# Altium footprint library NodeMCU_LoLin_v3-pcb.PcbLib: 1 footprints
Each footprint in its own frame and in the unit in brackets; x right, y up, seen from the top. Pads: shape width x height; smd on the part's side, far side on the other; paste and mask are expansions set on the pad; w line width, h text height; cw(c..) or ccw(c..) is an arc to the next point about the centre after c.
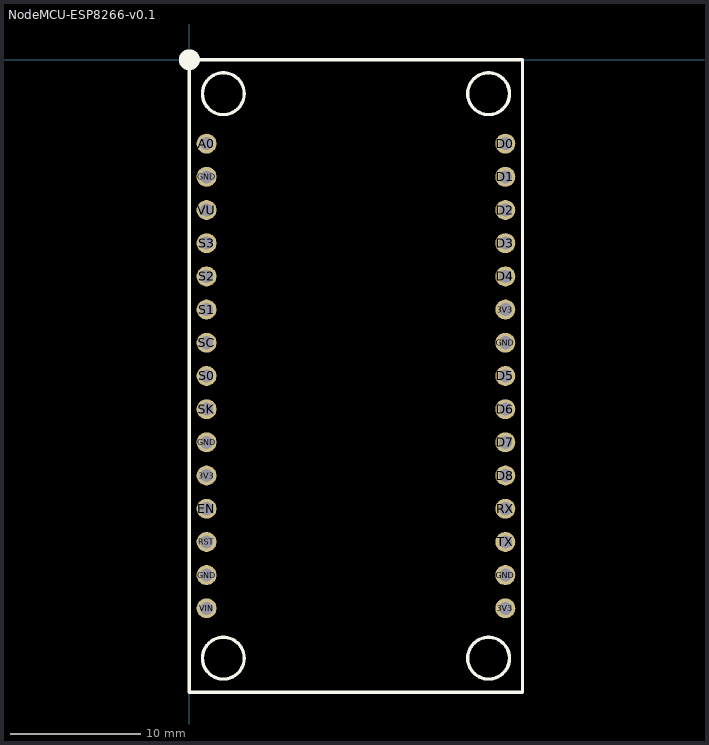
[diagram p0: the footprint, top view; thin cyan lines are the x and y axes]

## NodeMCU-ESP8266-v0.1 [mm]
pads (30):
  round 1.524 hole 1: 3V3(1.32,-31.82) 3V3(24.18,-41.98) 3V3(24.18,-19.12) A0(1.32,-6.42) D0(24.18,-6.42) D1(24.18,-8.96) D2(24.18,-11.5) D3(24.18,-14.04) D4(24.18,-16.58) D5(24.18,-24.2) D6(24.18,-26.74) D7(24.18,-29.28) D8(24.18,-31.82) EN(1.32,-34.36) GND(1.32,-39.44) GND(1.32,-29.28) GND(1.32,-8.96) GND(24.18,-39.44) GND(24.18,-21.66) RST(1.32,-36.9) RX(24.18,-34.36) S0(1.32,-24.2) S1(1.32,-19.12) S2(1.32,-16.58) S3(1.32,-14.04) SC(1.32,-21.66) SK(1.32,-26.74) TX(24.18,-36.9) VIN(1.32,-41.98) VU(1.32,-11.5)
Top Overlay:
  circle w0.254: c22.9,-45.8 r1.6
  circle w0.254: c2.6,-45.8 r1.6
  circle w0.254: c22.9,-2.6 r1.6
  circle w0.254: c2.6,-2.6 r1.6
  circle w1: c0,0 r0.3
  lines w0.254: 0,-48.4 25.5,-48.4 25.5,0 0,0 0,-48.4